# EAGLE library part VNH5019A-E (library VNH5019A-E)
Automotive fully integrated H-bridge motor driver Description: The VHN5019A-E is a full bridge motor driver intended for a wide range of automotive applications. The device incorporates a dual monolithic high-side drivers and two low-side switches. The high-side driver switch is designed using STMicroelectronics’ well known and proven proprietary VIPower® M0 technology that allows to efficiently integrate on the same die a true Power MOSFET with an intelligent signal/protection circuit. Features : AEC-Q100 qualified ECOPACK®: lead free and RoHS compliant Output current: 30 A 3 V CMOS compatible inputs Undervoltage and overvoltage shutdown High-side and low-side thermal shutdown Cross-conduction protection Current limitation Very low standby power consumption PWM operation up to 20 kHz Protection against: Loss of ground and loss of VCC Current sense output proportional to motor current Charge pump output for reverse polarity protection Output protected against short to ground and short to VCC Check availability <https://pricing.snapeda.com/parts/VNH5019A-E/STMicroelectronics/view-part?ref=eda>
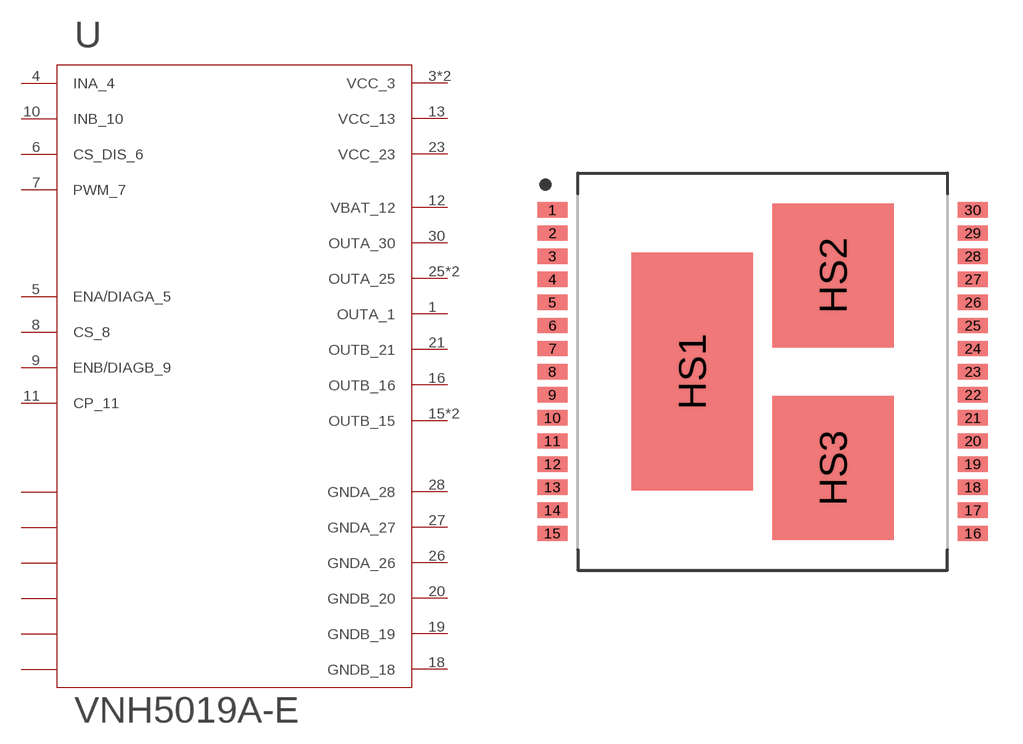
[diagram p0: symbol with the pads of IC_MULTIPOWERSO-30TR; footprint IC_MULTIPOWERSO-30TR]

Designator prefix -

## VNH5019A-E (Availability: In Stock; Check_prices: https://www.snapeda.com/parts/VNH5019A-E/STMicroelectronics/view-part/?ref=eda; Description: - Motor Driver Power MOSFET Parallel, PWM MultiPowerSO-30; MF: STMicroelectronics; MP: VNH5019A-E; Package: PowerSOP-30 STMicroelectronics; Price: None; Purchase-URL: https://www.snapeda.com/api/url_track_click_mouser/?unipart_id=231156&manufacturer=STMicroelectronics&part_name=VNH5019A-E&search_term=None; SnapEDA_Link: https://www.snapeda.com/parts/VNH5019A-E/STMicroelectronics/view-part/?ref=snap)  [IC_MULTIPOWERSO-30TR]
1  OUTA_1  out
2  N.C._2  nc
3  VCC_3  pwr
4  INA_4  in
5  ENA/DIAGA_5  out
6  CS_DIS_6  in
7  PWM_7  in
8  CS_8  out
9  ENB/DIAGB_9  out
10  INB_10  in
11  CP_11  out
12  VBAT_12  out
13  VCC_13  pwr
14  NC_14  nc
15  OUTB_15  out
16  OUTB_16  out
17  NC_17  nc
18  GNDB_18  pwr
19  GNDB_19  pwr
20  GNDB_20  pwr
21  OUTB_21  out
22  NC_22  nc
23  VCC_23  pwr
24  NC_24  nc
25  OUTA_25  out
26  GNDA_26  pwr
27  GNDA_27  pwr
28  GNDA_28  pwr
29  N.C._29  nc
30  OUTA_30  out
HS1  VCC_3  pwr
HS2  OUTA_25  out
HS3  OUTB_15  out

## Footprint IC_MULTIPOWERSO-30TR (pad centres in mm)
smd 1.3 x 0.665: 1 -9.1,7; 2 -9.1,6; 3 -9.1,5; 4 -9.1,4; 5 -9.1,3; 6 -9.1,2; 7 -9.1,1; 8 -9.1,0; 9 -9.1,-1; 10 -9.1,-2; 11 -9.1,-3; 12 -9.1,-4; 13 -9.1,-5; 14 -9.1,-6; 15 -9.1,-7; 16 9.1,-7; 17 9.1,-6; 18 9.1,-5; 19 9.1,-4; 20 9.1,-3; 21 9.1,-2; 22 9.1,-1; 23 9.1,0; 24 9.1,1; 25 9.1,2; 26 9.1,3; 27 9.1,4; 28 9.1,5; 29 9.1,6; 30 9.1,7
smd 5.25 x 10.3: HS1 -3.05,0
smd 5.25 x 6.23: HS2 3.05,4.165; HS3 3.05,-4.165